# Altium schematic symbol library IPC_WK2_PARTS_Juan_Chavez.SchLib: 30 symbols (part 1 of 2)
Pins are listed as number, name and electrical type; pins without a type are passive.

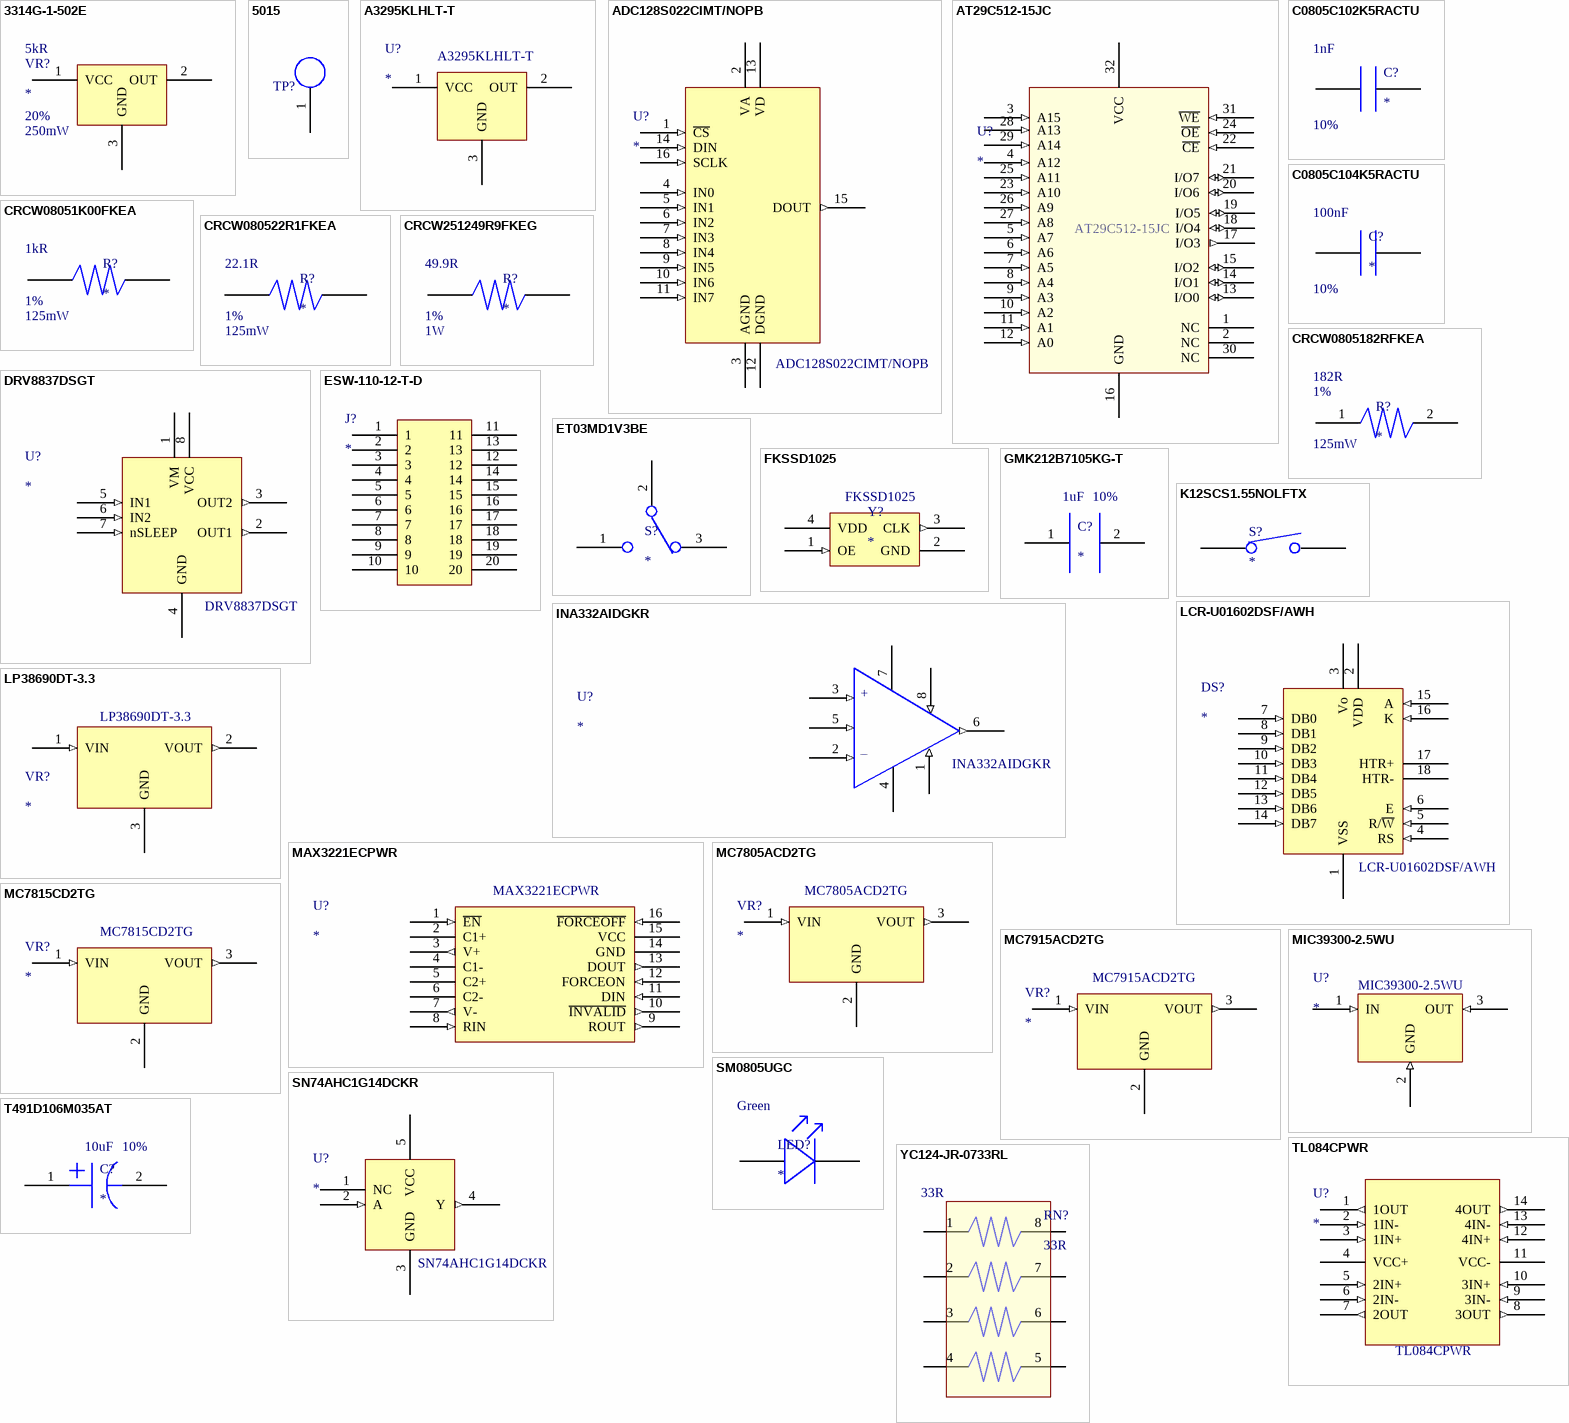
[diagram p0: symbols 3314G-1-502E to YC124-JR-0733RL]

## 3314G-1-502E
designator VR?  value 5kR  Power Rating: 250mW  Tolerance: 20%
Res Cermet Trimmer 5K Ohm 20% 1/4W 1(Elec)/1(Mech)Turn 2.45mm (5 X 6.2 X 2.55mm) Gull Wing SMD Embossed; Mfr.: Bourns; Mfr. P/N: 3314G-1-502E; Number of Turns: 1; Temperature Coefficient: 100ppm/°C; Insulation Resistance: 100MR; Supplier: Arrow Electronics; Supplier Part Number: 3314G-1-502E; RoHS: Yes; Category: Variable Resistors and Potentiometers; Stock: 45; Pricing: 1=1.6763, 10=1.3059, 25=1.2929 (USD); Mounting Technology: Surface Mount; Weight: 0.283g; Color: Natural; Min Operating Temperature: -55°C; Max Operating Temperature: 125°C; Resistor Type: Cermet; Packaging: Tape and Reel; Package Quantity: 500; Taper: Linear; Termination: Gull Wing; Max Power Dissipation: 250mW; Series: Trimpot® 3314 - Sealed; Technology: CERMET; Resistance Tolerance: 20%; Type: Potentiometer; Length: 5mm; Width: 4.5mm; Height: 2.55mm; Depth: 6.2mm; Radiation Hardening: No; Reach SVHC Compliant: No; Military Standard: Not; RoHS Compliant: Yes; Lead Free: Lead Free; ComponentLink1URL: https://datasheet.ciiva.com/11831/0900766b8009eb08-11831268.pdf?src-supplier=Rs; ComponentLink1Description: https://datasheet.ciiva.com/11831/0900766b8009eb08-11831268.pdf?src-supplier=Rs; ComponentLink2URL: https://datasheet.ciiva.com/41691/1846253-41691163.pdf?src-supplier=Newark; ComponentLink2Description: https://datasheet.ciiva.com/41691/1846253-41691163.pdf?src-supplier=Newark; ComponentLink3URL: https://datasheet.ciiva.com/43995/1157675-43995654.pdf?src-supplier=Jameco; ComponentLink3Description: https://datasheet.ciiva.com/43995/1157675-43995654.pdf?src-supplier=Jameco; ComponentLink4URL: https://datasheet.ciiva.com/14089/id3314-dat-e-14089897.pdf?src-supplier=Distrelec; ComponentLink4Description: https://datasheet.ciiva.com/14089/id3314-dat-e-14089897.pdf?src-supplier=Distrelec; ComponentLink5URL: https://datasheet.ciiva.com/15156/getdatasheetpartid-42713-15156279.pdf?src-supplier=Verical; ComponentLink5Description: https://datasheet.ciiva.com/15156/getdatasheetpartid-42713-15156279.pdf?src-supplier=Verical; ComponentLink6URL: https://datasheet.ciiva.com/3266/3314-3266632.pdf?src-supplier=Avnet; ComponentLink6Description: https://datasheet.ciiva.com/3266/3314-3266632.pdf?src-supplier=Avnet; ComponentLink7URL: https://datasheet.ciiva.com/2156/3314-2156331.pdf?src-supplier=Digi-Key; ComponentLink7Description: https://datasheet.ciiva.com/2156/3314-2156331.pdf?src-supplier=Digi-Key; ComponentLink8URL: https://datasheet.ciiva.com/2156/3314-2156332.pdf?src-supplier=Digi-Key; ComponentLink8Description: https://datasheet.ciiva.com/2156/3314-2156332.pdf?src-supplier=Digi-Key; ComponentLink9URL: https://datasheet.ciiva.com/2156/3314-2156330.pdf?src-supplier=Digi-Key; ComponentLink9Description: https://datasheet.ciiva.com/2156/3314-2156330.pdf?src-supplier=Digi-Key; ComponentLink10URL: https://datasheet.ciiva.com/5002/3314-67217-5002489.pdf?src-supplier=Mouser; ComponentLink10Description: https://datasheet.ciiva.com/5002/3314-67217-5002489.pdf?src-supplier=Mouser; ComponentLink11URL: https://datasheet.ciiva.com/16715/70153364-16715774.pdf?src-supplier=Allied+Electronics; ComponentLink11Description: https://datasheet.ciiva.com/16715/70153364-16715774.pdf?src-supplier=Allied+Electronics
footprint SOT120P620X255-3N (SOT23, 3-Leads, Body 4.50x6.20mm, Pitch 1.20mm, IPC Medium Density)
pins: 1 VCC (power), 2 OUT, 3 GND

## 5015
designator TP?, comment {Text}  (value not drawn)
PC TEST POINT MINIATURE SMT; Mfr.: Keystone Electronics; Mfr. P/N: 5015; Plating: Silver; Body Material: Bronze; Supplier: Digi-Key; Supplier Part Number: 36-5015CT-ND; RoHS: Yes; Category: Connectors; Stock: 5080493; Pricing: 1=0.45, 25=0.3684, 100=0.3009, 250=0.2702, 500=0.25792 (USD); Mounting Technology: Surface Mount; Contact Material: Bronze; Contact Plating: Silver; Color: White; Material: Bronze,Silver; Packaging: Tape and Reel; Series: -; Termination: SMD/SMT; Package Quantity: 1; Length: 0.105inch; Height: 0.06inch; Thickness: 0.01inch; Lead Free: Lead Free; RoHS Compliant: Yes; Reach SVHC Compliant: No; ComponentLink1URL: https://datasheet.ciiva.com/1123/5015-1123862.pdf?src-supplier=Newark; ComponentLink1Description: https://datasheet.ciiva.com/1123/5015-1123862.pdf?src-supplier=Newark; ComponentLink2URL: https://datasheet.ciiva.com/2917/5015-2917616.pdf?src-supplier=Digi-Key; ComponentLink2Description: https://datasheet.ciiva.com/2917/5015-2917616.pdf?src-supplier=Digi-Key; ComponentLink3URL: https://datasheet.ciiva.com/2917/5015-2917617.pdf?src-supplier=Digi-Key; ComponentLink3Description: https://datasheet.ciiva.com/2917/5015-2917617.pdf?src-supplier=Digi-Key; ComponentLink4URL: https://datasheet.ciiva.com/16883/70182998-16883734.pdf?src-supplier=Allied+Electronics; ComponentLink4Description: https://datasheet.ciiva.com/16883/70182998-16883734.pdf?src-supplier=Allied+Electronics
footprint TP_PAD
pins: 1

## A3295KLHLT-T
designator U?  Mfr. P/N: A3295KLHLT-T
Hall Effect Sensor 25mA Unipolar 5V/9V/12V/15V/18V 3-Pin SOT-23W T/R; Mfr.: Allegro MicroSystems; Min Supply Voltage: 4.2V; Max Supply Voltage: 24V; Max Supply Current: 8mA; Supplier: Digi-Key; Supplier Part Number: 620-1667-2-ND; RoHS: Yes; Category: Sensors; Pricing: 12000=0.43834 (USD); Mounting Technology: Surface Mount; Pins: 3; Min Operating Temperature: -40°C; Max Operating Temperature: 125°C; Output Current: 25mA; Packaging: Tape and Reel; Package Quantity: 6000; Max Output current: 25mA; Operating Supply Current: 8mA; Type: Unipolar Switch; Series: -; RoHS Compliant: Yes; ComponentLink1URL: http://components.arrow.com/part/dataview/45985065S9795958N6817?src-supplier=Arrow+Electronics; ComponentLink1Description: http://components.arrow.com/part/dataview/45985065S9795958N6817?src-supplier=Arrow+Electronics; ComponentLink2URL: http://www.allegromicro.com/~/media/Files/Datasheets/A3295-Datasheet.ashx?src-supplier=Digi-Key; ComponentLink2Description: http://www.allegromicro.com/~/media/Files/Datasheets/A3295-Datasheet.ashx?src-supplier=Digi-Key
footprint SOT95P285X110-3N (SOT23, 3-Leads, Body 3.00x2.85mm, Pitch 0.95mm, IPC Medium Density)
pins: 1 VCC (power), 2 OUT, 3 GND

## ADC128S022CIMT/NOPB
designator U?  Mfr. P/N: ADC128S022CIMT/NOPB
Octal Channel Single ADC SAR 200ksps 12-bit Serial 16-Pin TSSOP Rail; Mfr.: TI National Semiconductor; Operating Supply Voltage: 3.3V; Interface: SPI,Serial; Min Supply Voltage: 2.7V; Max Supply Voltage: 5.25V; Number of Converters: 1; Resolution: 12b; Number of Bits: 12; Sampling Rate: 200KS/s; Polarity: Unipolar; Integral Nonlinearity (INL): 1LSB; Signal to Noise Ratio (SNR): 73dB; Number of Analog Inputs: 8; Full Scale Error: 2LSB; Differential Nonlinearity: -0.7LSB; Supply Type: Analog,Digital; Power Consumption: 1.2mW; Voltage: 5V; Converter Type: GENERAL PURPOSE; Supplier: Mouser; Supplier Part Number: 926-C128S022CIMTNOPB; RoHS: Yes; Category: Analog to Digital Converters (ADCs); Stock: 4294; Pricing: 1=6.86, 10=6.16, 25=5.82, 50=5.82, 92=5.05, 100=5.05, 276=4.78, 552=4.29, 1000=4.29, 1012=3.66, 2576=3.54, 5060=3.41, 10000=3.66 (USD); Mounting Technology: Surface Mount; Case/Package: TSSOP; Pins: 16; Contact Plating: Tin; Min Operating Temperature: -40°C; Max Operating Temperature: 105°C; Packaging: Rail/Tube; Number of Elements: 1; Number of A/D Converters: 1; Length: 5mm; Width: 4.4mm; Height: 0.9mm; Radiation Hardening: No; RoHS Compliant: Yes; Reach SVHC Compliant: No; Lead Free: Lead Free; ComponentLink1URL: https://datasheet.ciiva.com/27051/1256032-27051779.pdf?src-supplier=Jameco; ComponentLink1Description: https://datasheet.ciiva.com/27051/1256032-27051779.pdf?src-supplier=Jameco; ComponentLink2URL: https://datasheet.ciiva.com/26888/getdatasheetpartid-646454-26888523.pdf?src-supplier=Verical; ComponentLink2Description: https://datasheet.ciiva.com/26888/getdatasheetpartid-646454-26888523.pdf?src-supplier=Verical; ComponentLink3URL: https://datasheet.ciiva.com/3039/adc128s022-3039436.pdf?src-supplier=Avnet; ComponentLink3Description: https://datasheet.ciiva.com/3039/adc128s022-3039436.pdf?src-supplier=Avnet; ComponentLink4URL: https://datasheet.ciiva.com/6659/adc128s022-6659263.pdf?src-supplier=Digi-Key; ComponentLink4Description: https://datasheet.ciiva.com/6659/adc128s022-6659263.pdf?src-supplier=Digi-Key
footprint TSOP65P640X110-16N (TSOP, 16-Leads, Body 5.00x4.45mm, Pitch 0.65mm, IPC Medium Density)
pins: 1 ~{CS} (in) "Chip select. On the falling edge of CS, a conversion process begins. Conversions continue as long as CS is held low.", 2 VA (power) "Positive analog supply pin. This voltage is also used as the reference voltage. This pin VA 2 Supply should be connected to a quiet +2.7-V to +5.25-V source and bypassed to GND with 1-μF and 0.1-μF monolithic ceramic capacitors located within 1 cm of the power pin.", 3 AGND (power) "The ground return for the analog supply and signals.", 4 IN0 (in) "Analog inputs. These signals can range from 0 V to VREF", 5 IN1 (in) "Analog inputs. These signals can range from 0 V to VREF", 6 IN2 (in) "Analog inputs. These signals can range from 0 V to VREF", 7 IN3 (in) "Analog inputs. These signals can range from 0 V to VREF", 8 IN4 (in) "Analog inputs. These signals can range from 0 V to VREF", 9 IN5 (in) "Analog inputs. These signals can range from 0 V to VREF", 10 IN6 (in) "Analog inputs. These signals can range from 0 V to VREF", 11 IN7 (in) "Analog inputs. These signals can range from 0 V to VREF", 12 DGND (power) "The ground return for the digital supply and signals.", 13 VD (power) "Positive digital supply pin. This pin should be connected to a +2.7-V to VA supply, and VD 13 Supply bypassed to GND with a 0.1-μF monolithic ceramic capacitor located within 1 cm of the power pin.", 14 DIN (in) "Digital data input. The ADC128S022's Control Register is loaded through this pin on rising edges of the SCLK pin.", 15 DOUT (out) "Digital data output. The output samples are clocked out of this pin on the falling edges of the SCLK pin.", 16 SCLK (in) "Digital clock input. The specified performance range of frequencies for this input is 0.8 MHz to 3.2 MHz. This clock directly controls the conversion and readout processes."

## AT29C512-15JC
designator U?  Mfr. P/N: AT29C512-15JC
FLASH Memory IC 512Kbit Parallel 150 ns 32-PLCC (13.97x11.43); Mfr: Microchip Technology; Memory Type: Non-Volatile; Memory Organization: 68K x 8; Write Cycle Time - Word, Page: 10ms; Access Time: 150 ns; Voltage - Supply: 4.5V ~ 5.5V; Base Product Number: AT29C512; Memory Format: FLASH; Technology: FLASH; Memory Size: 512Kbit; Memory Interface: Parallel; Operating Temperature: 0°C ~ 70°C (TC); Mounting Type: Surface Mount; Package / Case: 32-LCC (J-Lead); Supplier Device Package: 32-PLCC (13.97x11.43)
footprint PLCC127P1245X1499X356-32N (Leaded Chip Carrier, 32-Leads, Body 12.45x14.99mm, Pitch 1.270mm, IPC Medium Density)
pins: 1 NC (hiz) "No Connect", 2 NC (hiz) "No Connect", 3 A15 (in) "Addresses", 4 A12 (in) "Addresses", 5 A7 (in) "Addresses", 6 A6 (in) "Addresses", 7 A5 (in) "Addresses", 8 A4 (in) "Addresses", 9 A3 (in) "Addresses", 10 A2 (in) "Addresses", 11 A1 (in) "Addresses", 12 A0 (in) "Addresses", 13 I/O0 (io) "Data Inputs/Outputs", 14 I/O1 (io) "Data Inputs/Outputs", 15 I/O2 (io) "Data Inputs/Outputs", 16 GND (power) "Ground", 17 I/O3 (out) "Data Inputs/Outputs", 18 I/O4 (io) "Data Inputs/Outputs", 19 I/O5 (io) "Data Inputs/Outputs", 20 I/O6 (io) "Data Inputs/Outputs", 21 I/O7 (io) "Data Inputs/Outputs", 22 ~{CE} (in) "Chip Enable", 23 A10 (in) "Addresses", 24 ~{OE} (in) "Output Enable", 25 A11 (in) "Addresses", 26 A9 (in) "Addresses", 27 A8 (in) "Addresses", 28 A13 (in) "Addresses", 29 A14 (in) "Addresses", 30 NC (hiz) "No Connect", 31 ~{WE} (in) "Write Enable", 32 VCC (power) "Power Supply"

## C0805C102K5RACTU
designator C?  value 1nF  Tolerance: 10%
Cap Ceramic 0.001uF 50V X7R 10% SMD 0805 125C Plastic T/R; Mfr.: KEMET; Mfr. P/N: C0805C102K5RACTU; Supplier: Mouser; Supplier Part Number: 80-C0805C102K5R; RoHS: Yes; Category: Ceramic Capacitors; Stock: 426054; Pricing: 1=0.11, 10=0.046, 50=0.046, 100=0.027, 1000=0.022, 10000=0.016 (USD); Mounting Technology: Surface Mount,PCB; Case/Package: 0805; Pins: 2; Case Code (Imperial): 0805; Case Code (Metric): 2012; Dielectric Material: Ceramic; Min Operating Temperature: -55°C; Max Operating Temperature: 125°C; Packaging: Tape and Reel; Dielectric: X7R; Voltage Rating (DC): 50V; Voltage: 50V; Series: SMD Comm X7R; Voltage Rating: 50V; Package Quantity: 4000; Termination: SMD/SMT; Construction: Flat; Length: 2mm; Width: 1.25mm; Height: 0.78mm; Lead Pitch: 0.75mm; Depth: 1.25mm; Radiation Hardening: No; RoHS Compliant: Yes; Reach SVHC Compliant: No; ComponentLink1URL: https://datasheet.ciiva.com/7842/1918693-7842527.pdf?src-supplier=Element14; ComponentLink1Description: https://datasheet.ciiva.com/7842/1918693-7842527.pdf?src-supplier=Element14; ComponentLink2URL: https://datasheet.ciiva.com/18193/getdatasheetpartid-385640-18193338.pdf?src-supplier=Verical; ComponentLink2Description: https://datasheet.ciiva.com/18193/getdatasheetpartid-385640-18193338.pdf?src-supplier=Verical; ComponentLink3URL: https://datasheet.ciiva.com/39122/docfinderpartnumberc0402c102k5ractu-39122922.pdf?src-supplier=Onlinecomponents.com; ComponentLink3Description: https://datasheet.ciiva.com/39122/docfinderpartnumberc0402c102k5ractu-39122922.pdf?src-supplier=Onlinecomponents.com
footprint CAPC2012X07N (Chip Capacitor, 2-Leads, Body 2.00x1.25mm, IPC Medium Density)
pins: 1, 2

## C0805C104K5RACTU
designator C?  value 100nF  Tolerance: 10%
Cap Ceramic 0.1uF 50V X7R 10% SMD 2.0 x 1.2 mm 125 C Paper T/R; Mfr.: KEMET; Mfr. P/N: C0805C104K5RACTU; Voltage: 500V; Supplier: Mouser; Supplier Part Number: 80-C0805C104K5R; RoHS: Yes; Category: Ceramic Capacitors; Stock: 2449664; Pricing: 1=0.1, 10=0.066, 50=0.066, 100=0.04, 1000=0.035, 4000=0.03, 8000=0.022, 10000=0.022, 24000=0.019, 100000=0.017 (USD); Mounting Technology: Surface Mount,PCB; Case/Package: 0805; Pins: 2; Case Code (Imperial): 0805; Case Code (Metric): 2012; Min Operating Temperature: -55°C; Max Operating Temperature: 125°C; Dielectric: X7R; Package Quantity: 4000; Voltage Rating: 50V; Packaging: Tape and Reel; Voltage Rating (DC): 50V; Termination: SMD/SMT; Series: SMD Comm X7R; Construction: Flat; Length: 2mm; Width: 1.2mm; Height: 0.9mm; Depth: 1.25mm; Lead Pitch: 0.75mm; Radiation Hardening: No; RoHS Compliant: Yes; Reach SVHC Compliant: No; ComponentLink1URL: https://datasheet.ciiva.com/32431/slceramic-chip-condensers-e-32431755.pdf?src-supplier=Distrelec; ComponentLink1Description: https://datasheet.ciiva.com/32431/slceramic-chip-condensers-e-32431755.pdf?src-supplier=Distrelec; ComponentLink2URL: https://datasheet.ciiva.com/28682/1851736-28682232.pdf?src-supplier=Element14; ComponentLink2Description: https://datasheet.ciiva.com/28682/1851736-28682232.pdf?src-supplier=Element14; ComponentLink3URL: https://datasheet.ciiva.com/18410/70095383-18410815.pdf?src-supplier=Allied+Electronics; ComponentLink3Description: https://datasheet.ciiva.com/18410/70095383-18410815.pdf?src-supplier=Allied+Electronics; ComponentLink4URL: https://datasheet.ciiva.com/14589/70095383-14589048.pdf?src-supplier=Allied+Electronics; ComponentLink4Description: https://datasheet.ciiva.com/14589/70095383-14589048.pdf?src-supplier=Allied+Electronics
footprint CAPC2012X07N (Chip Capacitor, 2-Leads, Body 2.00x1.25mm, IPC Medium Density)
pins: 1, 2

## CRCW08051K00FKEA
designator R?  value 1kR  Max Power Dissipation: 125mW  Tolerance: 1%
Res Thick Film 0805 1K Ohm 1% 1/8W ±100ppm/°C Molded SMD Paper T/R; Mfr.: Vishay Dale; Mfr. P/N: CRCW08051K00FKEA; Voltage Rating: 150V; Supplier: Mouser; Supplier Part Number: 71-CRCW0805-1.0K-E3; RoHS: Yes; Category: Chip SMD Resistors; Stock: 652369; Pricing: 1=0.1, 10=0.026, 50=0.026, 100=0.026, 1000=0.013, 10000=0.007 (USD); Case/Package: 0805; Pins: 2; Contact Plating: Tin; Weight: 0.000194oz; Case Code (Imperial): 0805; Case Code (Metric): 2012; Min Operating Temperature: -55°C; Max Operating Temperature: 155°C; Temperature Coefficient: 100ppm/°C; Series: CRCW; Packaging: Tape and Reel; Package Quantity: 5000; Number of Terminations: 2; Power Rating: 125mW; Resistor Type: Thick Film; Termination: SMD/SMT; Voltage Rating (DC): 150V; Features: Automotive AEC-Q200; Technology: THICK FILM; Resistance Tolerance: 1%; Construction: Rectangular; Length: 2mm; Width: 1.25mm; Height: 0.45mm; Depth: 1.25mm; Ratings: AEC-Q200; RoHS Compliant: Yes; Lead Free: Lead Free; Reach SVHC Compliant: Unknown; Military Standard: Not; ComponentLink1URL: https://datasheet.ciiva.com/11808/0900766b80d98b26-11808530.pdf?src-supplier=Rs; ComponentLink1Description: https://datasheet.ciiva.com/11808/0900766b80d98b26-11808530.pdf?src-supplier=Rs; ComponentLink2URL: https://datasheet.ciiva.com/3258/dcrcwe3-3258215.pdf?src-supplier=Avnet; ComponentLink2Description: https://datasheet.ciiva.com/3258/dcrcwe3-3258215.pdf?src-supplier=Avnet; ComponentLink3URL: https://datasheet.ciiva.com/26312/fld-crcw-e3-data-en-26312922.pdf?src-supplier=Distrelec; ComponentLink3Description: https://datasheet.ciiva.com/26312/fld-crcw-e3-data-en-26312922.pdf?src-supplier=Distrelec; ComponentLink4URL: https://datasheet.ciiva.com/16213/dcrcwe3-16213643.pdf?src-supplier=Future+Electronics; ComponentLink4Description: https://datasheet.ciiva.com/16213/dcrcwe3-16213643.pdf?src-supplier=Future+Electronics; ComponentLink5URL: https://datasheet.ciiva.com/46381/1697337-46381606.pdf?src-supplier=Element14; ComponentLink5Description: https://datasheet.ciiva.com/46381/1697337-46381606.pdf?src-supplier=Element14; ComponentLink6URL: https://datasheet.ciiva.com/46441/1720486-46441626.pdf?src-supplier=Element14; ComponentLink6Description: https://datasheet.ciiva.com/46441/1720486-46441626.pdf?src-supplier=Element14
footprint RESC2012X05N (Chip Resistor, 2-Leads, Body 2.05x1.25mm, IPC Medium Density)
pins: 1, 2

## CRCW080522R1FKEA
designator R?  value 22.1R  Power Rating: 125mW  Tolerance: 1%
Resistor Thick Film 0805 22.1 Ohm 1% 1/8W 100ppm/C Molded SMD Paper T/R; Mfr.: Vishay; Mfr. P/N: CRCW080522R1FKEA; Temperature Coefficient: 100ppm/°C; Voltage Rating: 150V; Supplier: Mouser; Supplier Part Number: 71-CRCW0805-22.1-E3; RoHS: Yes; Category: Chip SMD Resistors; Stock: 3937; Pricing: 1=0.1, 10=0.063, 50=0.063, 100=0.028, 1000=0.013, 10000=0.008 (USD); Case/Package: 0805; Pins: 2; Weight: 0.000194oz; Case Code (Imperial): 0805; Case Code (Metric): 2012; Contact Plating: Tin; Min Operating Temperature: -55°C; Max Operating Temperature: 155°C; Packaging: Tape and Reel; Package Quantity: 5000; Termination: SMD/SMT; Features: Automotive AEC-Q200; Series: CRCW; Max Power Dissipation: 125mW; Number of Terminations: 2; Construction: Rectangular; Resistor Type: Thick Film; Voltage Rating (DC): 150V; Technology: THICK FILM; Resistance Tolerance: 1%; Length: 2mm; Width: 1.25mm; Height: 0.45mm; Depth: 1.25mm; Radiation Hardening: No; RoHS Compliant: Yes; Military Standard: Not; Lead Free: Lead Free; Reach SVHC Compliant: Unknown; ComponentLink1URL: https://datasheet.ciiva.com/11809/0900766b80d98b26-11809170.pdf?src-supplier=Rs; ComponentLink1Description: https://datasheet.ciiva.com/11809/0900766b80d98b26-11809170.pdf?src-supplier=Rs; ComponentLink2URL: https://datasheet.ciiva.com/3258/dcrcwe3-3258341.pdf?src-supplier=Avnet; ComponentLink2Description: https://datasheet.ciiva.com/3258/dcrcwe3-3258341.pdf?src-supplier=Avnet; ComponentLink3URL: https://datasheet.ciiva.com/3258/dcrcwe3-3258342.pdf?src-supplier=Avnet; ComponentLink3Description: https://datasheet.ciiva.com/3258/dcrcwe3-3258342.pdf?src-supplier=Avnet; ComponentLink4URL: https://datasheet.ciiva.com/7725/125364-7725867.pdf?src-supplier=Element14; ComponentLink4Description: https://datasheet.ciiva.com/7725/125364-7725867.pdf?src-supplier=Element14; ComponentLink5URL: https://datasheet.ciiva.com/7168/1635184-7168232.pdf?src-supplier=Newark; ComponentLink5Description: https://datasheet.ciiva.com/7168/1635184-7168232.pdf?src-supplier=Newark; ComponentLink6URL: https://datasheet.ciiva.com/16760/70201119-16760713.pdf?src-supplier=Allied+Electronics; ComponentLink6Description: https://datasheet.ciiva.com/16760/70201119-16760713.pdf?src-supplier=Allied+Electronics; ComponentLink7URL: https://datasheet.ciiva.com/7934/1697337-7934405.pdf?src-supplier=Element14; ComponentLink7Description: https://datasheet.ciiva.com/7934/1697337-7934405.pdf?src-supplier=Element14; ComponentLink8URL: https://datasheet.ciiva.com/7934/1697337-7934406.pdf?src-supplier=Element14; ComponentLink8Description: https://datasheet.ciiva.com/7934/1697337-7934406.pdf?src-supplier=Element14
footprint RESC2012X05N (Chip Resistor, 2-Leads, Body 2.05x1.25mm, IPC Medium Density)
pins: 1, 2

## CRCW251249R9FKEG
designator R?  value 49.9R  Power Rating: 1W  Tolerance: 1%
Res Thick Film 2512 49.9 Ohm 1% 1W ±100ppm/°C Molded SMD SMD Blister T/R; Mfr.: Vishay; Mfr. P/N: CRCW251249R9FKEG; Voltage Rating: 500V; Supplier: Mouser; Supplier Part Number: 71-CRCW2512-49.9-E3; RoHS: Yes; Category: Chip SMD Resistors; Stock: 24617; Pricing: 1=0.44, 10=0.358, 50=0.358, 100=0.168, 500=0.15, 1000=0.074, 2000=0.066, 4000=0.059, 10000=0.059 (USD); Case/Package: 2512; Weight: 0.001429oz; Case Code (Imperial): 2512; Case Code (Metric): 6432; Contact Plating: Tin; Min Operating Temperature: -55°C; Max Operating Temperature: 155°C; Package Quantity: 10; Packaging: Tape and Reel; Number of Terminations: 2; Temperature Coefficient: 100ppm/°C; Max Power Dissipation: 1W; Features: Automotive AEC-Q200; Series: CRCW; Termination: SMD/SMT; Resistor Type: Thick Film; Voltage Rating (DC): 500V; Construction: Rectangular; Technology: THICK FILM; Resistance Tolerance: 1%; Length: 6.3mm; Width: 0.124inch; Height: 0.6mm; Depth: 3.15mm; Radiation Hardening: No; Lead Free: Lead Free; RoHS Compliant: Yes; Military Standard: Not; Reach SVHC Compliant: Unknown; ComponentLink1URL: https://datasheet.ciiva.com/11818/0900766b80d98bd1-11818245.pdf?src-supplier=Rs; ComponentLink1Description: https://datasheet.ciiva.com/11818/0900766b80d98bd1-11818245.pdf?src-supplier=Rs; ComponentLink2URL: https://datasheet.ciiva.com/9003/dcrcwe3-9003358.pdf?src-supplier=Avnet; ComponentLink2Description: https://datasheet.ciiva.com/9003/dcrcwe3-9003358.pdf?src-supplier=Avnet; ComponentLink3URL: https://datasheet.ciiva.com/2478/dcrcwe3-2478305.pdf?src-supplier=Digi-Key; ComponentLink3Description: https://datasheet.ciiva.com/2478/dcrcwe3-2478305.pdf?src-supplier=Digi-Key; ComponentLink4URL: https://datasheet.ciiva.com/2478/dcrcwe3-2478306.pdf?src-supplier=Digi-Key; ComponentLink4Description: https://datasheet.ciiva.com/2478/dcrcwe3-2478306.pdf?src-supplier=Digi-Key; ComponentLink5URL: https://datasheet.ciiva.com/2478/dcrcwe3-2478307.pdf?src-supplier=Digi-Key; ComponentLink5Description: https://datasheet.ciiva.com/2478/dcrcwe3-2478307.pdf?src-supplier=Digi-Key; ComponentLink6URL: https://datasheet.ciiva.com/7841/1533075-7841884.pdf?src-supplier=Element14; ComponentLink6Description: https://datasheet.ciiva.com/7841/1533075-7841884.pdf?src-supplier=Element14
footprint RESC6332X07N (Chip Resistor, 2-Leads, Body 6.30x3.15mm, IPC Medium Density)
pins: 1, 2

## CRCW0805182RFKEA
designator R?  value 182R  Power Rating: 125mW  Tolerance: 1%
Res Thick Film 0805 182 Ohm 1% 1/8W ±100ppm/°C Molded SMD SMD Paper T/R; Mfr.: Vishay; Mfr. P/N: CRCW0805182RFKEA; Voltage Rating: 150V; Supplier: Mouser; RoHS: Yes; Category: Chip SMD Resistors; Stock: 25171; Pricing: 1=0.13, 10=0.068, 50=0.068, 100=0.028, 1000=0.013, 10000=0.008 (USD); Case/Package: 0805; Pins: 2; Contact Plating: Tin; Weight: 0.000194oz; Case Code (Metric): 2012; Case Code (Imperial): 0805; Min Operating Temperature: -55°C; Max Operating Temperature: 155°C; Temperature Coefficient: 100ppm/°C; Package Quantity: 10; Packaging: Tape and Reel; Resistor Type: Thick Film; Number of Terminations: 2; Termination: SMD/SMT; Max Power Dissipation: 125mW; Features: Automotive AEC-Q200; Series: CRCW; Voltage Rating (DC): 150V; Resistance Tolerance: 1%; Technology: THICK FILM; Length: 2mm; Width: 0.049inch; Height: 0.45mm; Depth: 1.25mm; Radiation Hardening: No; Lead Free: Lead Free; RoHS Compliant: Yes; Reach SVHC Compliant: Unknown; ComponentLink1URL: https://datasheet.ciiva.com/11810/0900766b80d98b26-11810431.pdf?src-supplier=Rs; ComponentLink1Description: https://datasheet.ciiva.com/11810/0900766b80d98b26-11810431.pdf?src-supplier=Rs; ComponentLink2URL: https://datasheet.ciiva.com/16430/dcrcwe3-16430250.pdf?src-supplier=Future+Electronics; ComponentLink2Description: https://datasheet.ciiva.com/16430/dcrcwe3-16430250.pdf?src-supplier=Future+Electronics; ComponentLink3URL: https://datasheet.ciiva.com/5550/dcrcwe3-109170-5550684.pdf?src-supplier=Mouser; ComponentLink3Description: https://datasheet.ciiva.com/5550/dcrcwe3-109170-5550684.pdf?src-supplier=Mouser; Supplier Part Number: 71-CRCW0805-182-E3
footprint RESC2012X05N (Chip Resistor, 2-Leads, Body 2.05x1.25mm, IPC Medium Density)
pins: 1, 2

## DRV8837DSGT
designator U?  Mfr. P/N: DRV8837DSGT
12-V, 1.8-A H-bridge motor driver 8-WSON -40 to 85; Mfr.: Texas Instruments; Number of Outputs: 1; Output Current: 1.8A; Min Supply Voltage: 1.8V; Max Supply Voltage: 11V; Supply Current: 300uA; Interface: PWM; Supplier: Digi-Key; Supplier Part Number: 296-34786-6-ND; RoHS: Yes; Category: Motor Drivers; Pricing: 1=1.37, 10=1.221, 25=1.1588, 100=0.952 (USD); Mounting Technology: Surface Mount; Pins: 8; Min Operating Temperature: -40°C; Max Operating Temperature: 85°C; Packaging: Tape and Reel; Package Quantity: 250; Series: -; Technology: NMOS; Length: 2.1mm; Width: 2.1mm; Height: 0.75mm; Radiation Hardening: No; Reach SVHC Compliant: No; Lead Free: Lead Free; RoHS Compliant: Yes; ComponentLink1URL: https://datasheet.ciiva.com/14266/drv8837-14266561.pdf?src-supplier=Avnet; ComponentLink1Description: https://datasheet.ciiva.com/14266/drv8837-14266561.pdf?src-supplier=Avnet; ComponentLink2URL: https://datasheet.ciiva.com/6807/cn0248-6807181.pdf?src-supplier=Newark; ComponentLink2Description: https://datasheet.ciiva.com/6807/cn0248-6807181.pdf?src-supplier=Newark; ComponentLink3URL: https://datasheet.ciiva.com/23656/1636647-23656282.pdf?src-supplier=Newark; ComponentLink3Description: https://datasheet.ciiva.com/23656/1636647-23656282.pdf?src-supplier=Newark; ComponentLink4URL: https://datasheet.ciiva.com/12085/slvsba4-121318-12085396.pdf?src-supplier=Mouser; ComponentLink4Description: https://datasheet.ciiva.com/12085/slvsba4-121318-12085396.pdf?src-supplier=Mouser; ComponentLink5URL: https://datasheet.ciiva.com/15109/getdatasheetpartid-561293-15109657.pdf?src-supplier=Verical; ComponentLink5Description: https://datasheet.ciiva.com/15109/getdatasheetpartid-561293-15109657.pdf?src-supplier=Verical; ComponentLink6URL: https://datasheet.ciiva.com/6607/drv8837-6607960.pdf?src-supplier=Digi-Key; ComponentLink6Description: https://datasheet.ciiva.com/6607/drv8837-6607960.pdf?src-supplier=Digi-Key; ComponentLink7URL: https://datasheet.ciiva.com/6607/drv8837-6607959.pdf?src-supplier=Digi-Key; ComponentLink7Description: https://datasheet.ciiva.com/6607/drv8837-6607959.pdf?src-supplier=Digi-Key
footprint SON50P200X80_HS-9N (SON, 8-Leads, Body 2.00x2.00mm, Pitch 0.50mm, Thermal Pad 1.65x0.69mm, IPC Medium Density)
pins: 1 VM (power), 2 OUT1 (out), 3 OUT2 (out), 4 GND (power), 5 IN1 (in), 6 IN2 (in), 7 nSLEEP (in), 8 VCC (power)

## ESW-110-12-T-D
designator J?
Conn Elevated Socket SKT 20 POS 2.54mm Solder ST Thru-Hole Tube; Mfr.: Samtec; Mfr. P/N: ESW-110-12-T-D; Number of Positions: 20; Gender: Receptacle; Voltage Rating (AC): 550V; Supplier Part Number: SAM11130-ND; RoHS: Yes; Category: Connectors; Stock: 138; Pricing: 1=3.28, 10=2.981, 100=2.626, 500=2.2321, 1000=1.90385, 5000=1.7069 (USD); Contact Material: Bronze; Contact Plating: Tin; Contact Finish - Mating: TIN; Insulation Color: Black; Insulation Material: Polymer; Contact Shape: Square; Min Operating Temperature: -55°C; Max Operating Temperature: 105°C; Number of Rows: 2; Termination: Solder; Series: ESW; Contact Type: Forked; Number of Contacts: 20; Packaging: Rail/Tube; Fastening Type: Pull; Pitch: 2.54mm; RoHS Compliant: Yes; Flammability Rating: UL94 V-0; ComponentLink1URL: http://www.farnell.com/datasheets/2607183.pdf?src-supplier=Farnell; ComponentLink1Description: http://www.farnell.com/datasheets/2607183.pdf?src-supplier=Farnell; ComponentLink2URL: http://suddendocs.samtec.com/catalog_english/esw_th.pdf?src-supplier=Digi-Key; ComponentLink2Description: http://suddendocs.samtec.com/catalog_english/esw_th.pdf?src-supplier=Digi-Key; ComponentLink3URL: http://cloud.samtec.com/catalog_english/ESW_TH.PDF?src-supplier=Avnet; ComponentLink3Description: http://cloud.samtec.com/catalog_english/ESW_TH.PDF?src-supplier=Avnet; ComponentLink4URL: http://www.farnell.com/datasheets/2607183.pdf?src-supplier=Newark; ComponentLink4Description: http://www.farnell.com/datasheets/2607183.pdf?src-supplier=Newark; Supplier: Digi-Key
footprint ESW-110-12-T-D
pins: 1, 2, 3, 4, 5, 6, 7, 8, 9, 10, 11, 12, 13, 14, 15, 16, 17, 18, 19, 20

## ET03MD1V3BE
designator S?
Switch Toggle ON OFF ON SPDT Toggle V-Bracket 20VAC 20VDC 0.4W Bracket Mount/Through Hole; Mfr.: ITT C&K; Mfr. P/N: ET03MD1V3BE; Actuator Material: Brass,Chrome; Actuator Color: Chrome; Voltage Rating (AC): 20V; Illumination Type: Non-Illuminated; Electrical Life: 30000Cycles; Current Rating: 400mA; Switch Function: On-Off-On; Actuator Type: Standard Round; Actuator Length: 6.1mm; Ratings: IP57,Waterproof; Supplier: Mouser; Supplier Part Number: 611-ET03MD1V3BE; RoHS: Yes; Category: Toggle Switches; Stock: 70; Pricing: 1=12.42, 10=11.89, 50=8.49, 100=7.1, 1000=7.07, 10000=7.07 (USD); Mounting Technology: Through Hole,Brackets; Contact Material: Copper Alloy; Contact Plating: Gold,Nickel; Min Operating Temperature: -30°C; Max Operating Temperature: 85°C; Voltage Rating (DC): 20V; Throw Configuration: SPDT; Package Quantity: 1; Packaging: Bulk; Max Voltage Rating (AC): 20V; Max Voltage Rating (DC): 20V; Termination: PC Pins; Orientation: Straight; Series: ET; Radiation Hardening: No; RoHS Compliant: Yes; ComponentLink1URL: https://datasheet.ciiva.com/8607/et-toggle-25aug14-8607333.pdf?src-supplier=Avnet; ComponentLink1Description: https://datasheet.ciiva.com/8607/et-toggle-25aug14-8607333.pdf?src-supplier=Avnet; ComponentLink2URL: https://datasheet.ciiva.com/2907/et-toggle-25aug14-2907044.pdf?src-supplier=Digi-Key; ComponentLink2Description: https://datasheet.ciiva.com/2907/et-toggle-25aug14-2907044.pdf?src-supplier=Digi-Key
footprint ET03MD1V3BE
pins: 1, 2, 3

## FKSSD1025
designator Y?  Mfr. P/N: FKSSD1025
SMD Crystal Oscillator 25MHz 3.3V 15pF 4-Pin CSMD; Mfr.: Diodes; Frequency Stability: 25ppm; Max Supply Current: 10mA; Max Supply Voltage: 3.63V; Min Supply Voltage: 2.97V; Supplier: Digi-Key; Supplier Part Number: FKSSD1025CT-ND; RoHS: Yes; Category: Oscillators; Stock: 3222; Pricing: 1=1.18, 10=1.129, 50=1.103, 100=0.9454, 500=0.9191, 1000=0.77467 (USD); Mounting Technology: Surface Mount; Case/Package: SMD/SMT; Pins: 4; Min Operating Temperature: -20°C; Max Operating Temperature: 70°C; Frequency: 25MHz; Load Capacitance: 15pF; Packaging: Tape and Reel; Operating Supply Voltage: 3.3V; Termination: SMD/SMT; Series: SaRonix-eCera™ ASSP XO™; Operating Frequency: 25 MHz; Length: 3.2mm; Depth: 2.5mm; Radiation Hardening: No; RoHS Compliant: Yes; ComponentLink1URL: https://datasheet.ciiva.com/867/fkssd1025-867824.pdf?src-supplier=Digi-Key; ComponentLink1Description: https://datasheet.ciiva.com/867/fkssd1025-867824.pdf?src-supplier=Digi-Key; ComponentLink2URL: https://datasheet.ciiva.com/9295/fkssd1025-9295303.pdf?src-supplier=Avnet; ComponentLink2Description: https://datasheet.ciiva.com/9295/fkssd1025-9295303.pdf?src-supplier=Avnet; ComponentLink3URL: https://datasheet.ciiva.com/16438/fdsas2062-16438357.pdf?src-supplier=Future+Electronics; ComponentLink3Description: https://datasheet.ciiva.com/16438/fdsas2062-16438357.pdf?src-supplier=Future+Electronics
footprint SOT255P210X110-3N-4OSC (SOT23, 3-Leads, Body 2.00x2.10mm, Pitch 2.55mm, IPC Medium Density)
pins: 1 OE (in), 2 GND (power), 3 CLK (out), 4 VDD (power)

## GMK212B7105KG-T
designator C?  value 1uF  Tolerance: 10%
0805 1 uF 35 V ±10% Tolerance X7R SMT Multilayer Ceramic Capacitor; Mfr.: Taiyo Yuden; Mfr. P/N: GMK212B7105KG-T; Voltage Rating: 35V; Supplier: Digi-Key; Supplier Part Number: 587-1438-1-ND; RoHS: Yes; Category: Ceramic Capacitors; Stock: 378869; Pricing: 1=0.19, 10=0.133, 50=0.0796, 100=0.0672, 500=0.04596, 1000=0.04065 (USD); Mounting Technology: Surface Mount; Case/Package: 0805; Pins: 2; Case Code (Metric): 2012; Case Code (Imperial): 0805; Min Operating Temperature: -55°C; Max Operating Temperature: 125°C; Dielectric: X7R; Packaging: Tape and Reel; Package Quantity: 1; Termination: SMD/SMT; Voltage: 35V; Voltage Rating (DC): 35V; Series: M; Construction: Flat; Length: 2mm; Width: 0.049inch; Height: 1.25mm; Thickness: 0.053inch; Depth: 1.25mm; Radiation Hardening: No; Lead Free: Lead Free; RoHS Compliant: Yes; Reach SVHC Compliant: Unknown; Halogen Free: Halogen Free; ComponentLink1URL: https://datasheet.ciiva.com/30215/47gmk212b7105kg-t-30215621.pdf?src-supplier=Onlinecomponents.com; ComponentLink1Description: https://datasheet.ciiva.com/30215/47gmk212b7105kg-t-30215621.pdf?src-supplier=Onlinecomponents.com; ComponentLink2URL: https://datasheet.ciiva.com/26871/getdatasheetpartid-638781-26871556.pdf?src-supplier=Verical; ComponentLink2Description: https://datasheet.ciiva.com/26871/getdatasheetpartid-638781-26871556.pdf?src-supplier=Verical; ComponentLink3URL: https://datasheet.ciiva.com/30215/95gmk212b7105kg-t-30215783.pdf?src-supplier=Onlinecomponents.com; ComponentLink3Description: https://datasheet.ciiva.com/30215/95gmk212b7105kg-t-30215783.pdf?src-supplier=Onlinecomponents.com; ComponentLink4URL: https://datasheet.ciiva.com/7975/746258-7975669.pdf?src-supplier=Element14; ComponentLink4Description: https://datasheet.ciiva.com/7975/746258-7975669.pdf?src-supplier=Element14; ComponentLink5URL: https://datasheet.ciiva.com/28645/746258-28645055.pdf?src-supplier=Element14; ComponentLink5Description: https://datasheet.ciiva.com/28645/746258-28645055.pdf?src-supplier=Element14
footprint CAPC2012X14N (Chip Capacitor, 2-Leads, Body 2.00x1.25mm, IPC Medium Density)
pins: 1, 2

## INA332AIDGKR
designator U?  Mfr. P/N: INA332AIDGKR
Low-power, single-supply, CMOS, low-cost, instrumentation amplifier 8-VSSOP -55 to 125; Mfr.: Texas Instruments; Slew Rate: 5V/µs; -3db Bandwidth: 2MHz; Common Mode Rejection Ratio: 60dB; Number of Channels: 1; Max Supply Voltage: 5.5V; Min Supply Voltage: 2.5V; Input Bias Current: 10pA; Input Offset Voltage (Vos): 8mV; Operating Supply Current: 415uA; Output Current per Channel: 48mA; Power Supply Rejection Ratio (PSRR): 86.02dB; Supply Current: 490uA; Number of Elements: 3; Input Resistance: 10000GR; Supplier: Digi-Key; Supplier Part Number: 296-41265-1-ND; RoHS: Yes; Category: Amplifiers - Op Amps, Buffer, Instrumentation; Pricing: 1=1.65, 10=1.485, 25=1.4008, 100=1.1935, 250=1.12064, 500=0.98056, 1000=0.81246 (USD); Case/Package: VSSOP; Pins: 8; Weight: 0.000917oz; Min Operating Temperature: -55°C; Max Operating Temperature: 125°C; Package Quantity: 2500; Packaging: Tape and Reel; Number of Circuits: 1; Quiescent Current: 415uA; Bandwidth: 2MHz; Series: -; Gain Bandwidth Product: 2MHz; Voltage Gain: 60dB; Radiation Hardening: No; Lead Free: Lead Free; RoHS Compliant: Yes; ComponentLink1URL: https://datasheet.ciiva.com/4754/sbos216b-125761-4754675.pdf?src-supplier=Mouser; ComponentLink1Description: https://datasheet.ciiva.com/4754/sbos216b-125761-4754675.pdf?src-supplier=Mouser; ComponentLink2URL: https://datasheet.ciiva.com/2976/ina332-2976177.pdf?src-supplier=Avnet; ComponentLink2Description: https://datasheet.ciiva.com/2976/ina332-2976177.pdf?src-supplier=Avnet; ComponentLink3URL: https://datasheet.ciiva.com/15128/getdatasheetpartid-358519-15128786.pdf?src-supplier=Verical; ComponentLink3Description: https://datasheet.ciiva.com/15128/getdatasheetpartid-358519-15128786.pdf?src-supplier=Verical; ComponentLink4URL: https://datasheet.ciiva.com/1812/ina2332-1812806.pdf?src-supplier=Digi-Key; ComponentLink4Description: https://datasheet.ciiva.com/1812/ina2332-1812806.pdf?src-supplier=Digi-Key
footprint TSOP65P490X110-8N (TSOP, 8-Leads, Body 3.00x3.00mm, Pitch 0.65mm, IPC Medium Density)
pins: 1 RG (in), 2 VIN- (in), 3 VIN+ (in), 4 V- (power), 5 REF (in), 6 Vout (out), 7 V+ (power), 8 Shutdown (in)
text: +; _

## K12SCS1.55NOLFTX
designator S?
SWITCH PUSH SPST-NO 0.1A 30V; Mfr.: ITT C&K; Mfr. P/N: K12SCS1.55NOLFTX; Mechanical Life: 200000Cycles; Throw Configuration: SPST; Switch Function: Off-Mom; Current Rating: 100mA; Actuator Type: Round, Button; Ratings: IP40; Supplier: Arrow Electronics; Supplier Part Number: K12SC S 1.5 5N O LFTX; RoHS: Yes; Category: Pushbutton Switches; Stock: 4200; Pricing: 1=2.04, 10=1.925, 25=1.86, 50=1.806, 100=1.745, 250=1.732, 500=1.654, 900=1.595, 1800=1.521, 2700=1.503 (USD); Mounting Technology: Surface Mount; Min Operating Temperature: -40°C; Max Operating Temperature: 85°C; Packaging: Cut Tape; Voltage Rating (DC): 30V; Termination: SMD/SMT; Electrical Life: 200000Cycles; Series: K12S; RoHS Compliant: Yes; ComponentLink1URL: https://www.ckswitches.com/media/1338/k12s.pdf?src-supplier=Digi-Key; ComponentLink1Description: https://www.ckswitches.com/media/1338/k12s.pdf?src-supplier=Digi-Key
footprint TSOP240P640X110-4N (TSOP, 4-Leads, Body 5.00x4.45mm, Pitch 2.40mm, IPC Medium Density)
pins: 5, 6

## LCR-U01602DSF/AWH
designator DS?  Mfr. P/N: LCR-U01602DSF/AWH
16 x 2 Transflective White LED Backlight LCD Character Module with Heater; Mfr.: Lumex; Color: Grey; Operating Supply Voltage: 5V; Resolution (height): 2pixel; Resolution (width): 16pixel; Interface: Parallel; Character Height: 4.35mm; Number of Characters: 32; Background Color: Green; Number Of Characters Per Row: 16; Fluid Type: STN; Supplier: Digi-Key; Supplier Part Number: 67-2091-ND; RoHS: Yes; Category: Uncategorized; Stock: 1220; Pricing: 1=22.48, 10=16.96, 100=14.2462, 500=13.08322 (USD); Mounting Technology: Screw; Case/Package: Module; Pins: 18; Min Operating Temperature: -40°C; Max Operating Temperature: 85°C; Backlight Type: LED; Packaging: Bulk; Package Quantity: 1; Series: -; Reach SVHC Compliant: No; Lead Free: Lead Free; RoHS Compliant: Yes; ComponentLink1URL: https://datasheet.ciiva.com/1640/1458461-1640944.pdf?src-supplier=Farnell; ComponentLink1Description: https://datasheet.ciiva.com/1640/1458461-1640944.pdf?src-supplier=Farnell; ComponentLink2URL: https://datasheet.ciiva.com/5325/lcr-u01602dsf+a-wh-187699-5325714.pdf?src-supplier=Mouser; ComponentLink2Description: https://datasheet.ciiva.com/5325/lcr-u01602dsf+a-wh-187699-5325714.pdf?src-supplier=Mouser; ComponentLink3URL: https://datasheet.ciiva.com/16495/lcr-u01602dsf-awh-16495851.pdf?src-supplier=Future+Electronics; ComponentLink3Description: https://datasheet.ciiva.com/16495/lcr-u01602dsf-awh-16495851.pdf?src-supplier=Future+Electronics; ComponentLink4URL: https://datasheet.ciiva.com/1314/lcr-u01602dsf+a-wh-1314500.pdf?src-supplier=Newark; ComponentLink4Description: https://datasheet.ciiva.com/1314/lcr-u01602dsf+a-wh-1314500.pdf?src-supplier=Newark
footprint LCR-U01602DSF/AWH
pins: 1 VSS (power), 2 VDD (power), 3 Vo (power), 4 RS (in), 5 R/~{W} (in), 6 E (in), 7 DB0 (in), 8 DB1 (in), 9 DB2 (in), 10 DB3 (in), 11 DB4 (in), 12 DB5 (in), 13 DB6 (in), 14 DB7 (in), 15 A (in), 16 K (in), 17 HTR+, 18 HTR-

## LP38690DT-3.3
designator VR?  Mfr. P/N: LP38690DT-3.3
LDO Regulator Pos 3.3V 1A 3-Pin(2+Tab) TO-252 Rail; Mfr.: TI National Semiconductor; Dropout Voltage: 650mV; Number of Outputs: 1; Min Input Voltage: 2.7V; Max Supply Voltage: 10V; Polarity: Positive; Quiescent Current: 100uA; Accuracy: 2.5%; Output Type: Fixed; Supplier: Digi-Key; Supplier Part Number: LP38690DT-3.3-ND; RoHS: No; Category: Voltage Regulators - Linear; Pricing: 300=1.97553 (USD); Mounting Technology: Surface Mount; Case/Package: TO-252; Pins: 3; Min Operating Temperature: -40°C; Max Operating Temperature: 125°C; Packaging: Rail/Tube; Output Voltage: 3.3V; Output Current: 1A; Max Output current: 1A; Nominal Output Voltage: 3.3V; Package Quantity: 75; Number of Regulators: 1; Series: -; Reach SVHC Compliant: No; Lead Free: Contains Lead; RoHS Compliant: No; ComponentLink1URL: https://datasheet.ciiva.com/3225/lp38692-3225723.pdf?src-supplier=Avnet; ComponentLink1Description: https://datasheet.ciiva.com/3225/lp38692-3225723.pdf?src-supplier=Avnet; ComponentLink2URL: https://datasheet.ciiva.com/6583/lp38690-6583688.pdf?src-supplier=Digi-Key; ComponentLink2Description: https://datasheet.ciiva.com/6583/lp38690-6583688.pdf?src-supplier=Digi-Key
footprint DPAK229P991X238-3N (D-PAK, 3-Pads, Body 6.21x6.73mm (max), IPC Medium Density)
pins: 1 VIN (in), 2 VOUT (out), 3 GND (power)

## MAX3221ECPWR
designator U?  Mfr. P/N: MAX3221ECPWR
IC RS232 3V-5.5V DRVR 16-TSSOP; Mfr.: Texas Instruments; Data Rate: 250Kbps; Number of Drivers: 1; Min Supply Voltage: 3V; Max Supply Voltage: 5.5V; Logic Function: Transceiver,Receiver; Operating Supply Voltage: 5V; Supply Current: 1mA; Simplex/Duplex: Full Duplex; Number of I/Os: 4; Propagation Delay: 0.15us; Receiver Hysteresis: 500mV; Supplier: Mouser; Supplier Part Number: 595-MAX3221ECPWR; RoHS: Yes; Category: Interface ICs; Stock: 37066; Pricing: 1=1.25, 10=1.13, 25=1.07, 50=1.07, 100=0.878, 250=0.821, 500=0.725, 1000=0.573, 2000=0.521, 4000=0.503, 10000=0.503 (USD); Mounting Technology: Surface Mount; Case/Package: TSSOP; Pins: 16; Weight: 0.002183oz; Min Operating Temperature: -40°C; Max Operating Temperature: 85°C; Packaging: Tape and Reel; Number of Receivers: 1; Number of Transmitters: 1; Package Quantity: 2000; Number of Transceivers: 1; Series: -; Lead Free: Lead Free; RoHS Compliant: Yes; Reach SVHC Compliant: No; ComponentLink1URL: https://datasheet.ciiva.com/1702/max3221e-1702026.pdf?src-supplier=Digi-Key; ComponentLink1Description: https://datasheet.ciiva.com/1702/max3221e-1702026.pdf?src-supplier=Digi-Key; ComponentLink2URL: https://datasheet.ciiva.com/1702/max3221e-1702025.pdf?src-supplier=Digi-Key; ComponentLink2Description: https://datasheet.ciiva.com/1702/max3221e-1702025.pdf?src-supplier=Digi-Key; ComponentLink3URL: https://datasheet.ciiva.com/1702/max3221e-1702027.pdf?src-supplier=Digi-Key; ComponentLink3Description: https://datasheet.ciiva.com/1702/max3221e-1702027.pdf?src-supplier=Digi-Key; ComponentLink4URL: https://datasheet.ciiva.com/3028/slls686a-3028479.pdf?src-supplier=Avnet; ComponentLink4Description: https://datasheet.ciiva.com/3028/slls686a-3028479.pdf?src-supplier=Avnet
footprint TSOP65P640X120-16N (TSOP, 16-Leads, Body 5.00x4.40mm, Pitch 0.65mm, IPC Medium Density)
pins: 1 ~{EN} (in), 2 C1+, 3 V+ (out), 4 C1-, 5 C2+, 6 C2-, 7 V- (out), 8 RIN (in), 9 ROUT (out), 10 ~{INVALID} (out), 11 DIN (in), 12 FORCEON (in), 13 DOUT (out), 14 GND (power), 15 VCC (power), 16 ~{FORCEOFF} (in)

## MC7805ACD2TG
designator VR?  Mfr. P/N: MC7805ACD2TG
Linear Voltage Regulator, 1 A, 5 to 24 V, Positive Vout: 5.0 V; TJ = 0°C to +125°C; Mfr.: ON Semiconductor; Output Voltage: 5V; Number of Outputs: 1; Output Current: 1A; Dropout Voltage: 2V; Max Supply Voltage: 35V; Min Input Voltage: 7V; Current Rating: 3.3mA; Output Type: Fixed; Quiescent Current: 6mA; Power Supply Rejection Ratio (PSRR): 83dB; Max Output current: 2.2A; Accuracy: 4%; Supplier: Digi-Key; Supplier Part Number: MC7805ACD2TGOS-ND; RoHS: Yes; Category: Voltage Regulators - Linear; Pricing: 1=0.93, 10=0.818, 25=0.768, 100=0.5822, 250=0.49552, 500=0.47074, 1000=0.35924, 2500=0.33447, 5000=0.32208 (USD); Mounting Technology: Surface Mount; Case/Package: D2PAK; Pins: 3; Min Operating Temperature: 0°C; Max Operating Temperature: 125°C; Packaging: Rail/Tube; Package Quantity: 50; Series: -; Number of Regulators: 1; Polarity: Positive; Min Output Voltage: 5V; Input Bias Current: 3.3mA; Nominal Output Voltage: 5V; Output Voltage Accuracy: 4%; Length: 10.24mm; Width: 9.35mm; Height: 30.02mm; Radiation Hardening: No; RoHS Compliant: Yes; Lead Free: Lead Free; Halogen Free: Halogen Free; Reach SVHC Compliant: No; ComponentLink1URL: https://datasheet.ciiva.com/27050/876037-27050585.pdf?src-supplier=Jameco; ComponentLink1Description: https://datasheet.ciiva.com/27050/876037-27050585.pdf?src-supplier=Jameco; ComponentLink2URL: https://datasheet.ciiva.com/2044/mc7800-d-2044662.pdf?src-supplier=Digi-Key; ComponentLink2Description: https://datasheet.ciiva.com/2044/mc7800-d-2044662.pdf?src-supplier=Digi-Key; ComponentLink3URL: https://datasheet.ciiva.com/3224/mc7800-d-3224031.pdf?src-supplier=Avnet; ComponentLink3Description: https://datasheet.ciiva.com/3224/mc7800-d-3224031.pdf?src-supplier=Avnet; ComponentLink4URL: https://datasheet.ciiva.com/7992/1726421-7992635.pdf?src-supplier=Element14; ComponentLink4Description: https://datasheet.ciiva.com/7992/1726421-7992635.pdf?src-supplier=Element14
footprint DPAK267P1420X457-3N (D2-PAK, 3-Pads, Body 7.77x8.48mm (max), IPC Medium Density)
pins: 1 VIN (in), 2 GND (power), 3 VOUT (out)

## MC7815CD2TG
designator VR?  Mfr. P/N: MC7815CD2TG
Linear Voltage Regulator, 1 A, 5 to 24 V, Positive Vout: 15.0 V; TJ = 0°C to +125°C; Mfr.: ON Semiconductor; Number of Outputs: 1; Max Supply Voltage: 35V; Output Voltage: 15V; Dropout Voltage: 2V; Min Input Voltage: 17V; Max Output current: 2.2A; Output Current: 1A; Quiescent Current: 6.5mA; Accuracy: 4%; Power Supply Rejection Ratio (PSRR): 58dB; Output Type: Fixed; Supplier: Digi-Key; Supplier Part Number: MC7815CD2TGOS-ND; RoHS: Yes; Category: Voltage Regulators - Linear; Stock: 6966; Pricing: 1=1.05, 10=0.942, 25=0.894, 100=0.6864, 250=0.6066, 500=0.57466, 1000=0.44697, 2500=0.42462, 5000=0.40865 (USD); Mounting Technology: Surface Mount; Case/Package: D2PAK; Pins: 3; Min Operating Temperature: 0°C; Max Operating Temperature: 125°C; Packaging: Rail/Tube; Package Quantity: 50; Nominal Output Voltage: 15V; Number of Regulators: 1; Polarity: Positive; Min Output Voltage: 15V; Series: -; Output Configuration: Positive; Length: 10.24mm; Width: 9.347mm; Height: 4.572mm; Radiation Hardening: No; Reach SVHC Compliant: No; Lead Free: Lead Free; Halogen Free: Halogen Free; RoHS Compliant: Yes; ComponentLink1URL: https://datasheet.ciiva.com/15110/getdatasheetpartid-41649-15110984.pdf?src-supplier=Verical; ComponentLink1Description: https://datasheet.ciiva.com/15110/getdatasheetpartid-41649-15110984.pdf?src-supplier=Verical; ComponentLink2URL: https://datasheet.ciiva.com/22629/1878412-22629439.pdf?src-supplier=Element14; ComponentLink2Description: https://datasheet.ciiva.com/22629/1878412-22629439.pdf?src-supplier=Element14; ComponentLink3URL: https://datasheet.ciiva.com/2052/mc7800-d-2052388.pdf?src-supplier=Digi-Key; ComponentLink3Description: https://datasheet.ciiva.com/2052/mc7800-d-2052388.pdf?src-supplier=Digi-Key
footprint DPAK267P1420X457-3N (D2-PAK, 3-Pads, Body 7.77x8.48mm (max), IPC Medium Density)
pins: 1 VIN (in), 2 GND (power), 3 VOUT (out)

## MC7915ACD2TG
designator VR?  Mfr. P/N: MC7915ACD2TG
Linear Voltage Regulator, 1 A, 5 V, Negative Vout: -15 V; 2%; TJ = 0°C to +125°C; Mfr.: ON Semiconductor; Output Current: 1A; Max Supply Voltage: -35V; Min Input Voltage: -17V; Number of Outputs: 1; Dropout Voltage: 1.3V; Output Voltage: -15V; Power Rating: 15W; Quiescent Current: 8mA; Power Supply Rejection Ratio (PSRR): 60dB; Output Type: Fixed; Supplier: Arrow Electronics; RoHS: Yes; Category: Voltage Regulators - Linear; Stock: 5; Pricing: 1=0.3329, 10=0.3269, 100=0.3083, 500=0.2992, 1000=0.2759, 3000=0.2713, 10500=0.2656, 25500=0.2645 (USD); Mounting Technology: Surface Mount; Case/Package: TO-263-3; Pins: 3; Min Operating Temperature: 0°C; Max Operating Temperature: 125°C; Packaging: Rail/Tube; Package Quantity: 50; Max Output current: 1A; Number of Regulators: 1; Polarity: Negative; Nominal Output Voltage: -15V; Accuracy: 2%; Series: -; Length: 10.24mm; Width: 9.347mm; Height: 4.572mm; Reach SVHC Compliant: No; Lead Free: Lead Free; Halogen Free: Halogen Free; RoHS Compliant: Yes; ComponentLink1URL: https://datasheet.ciiva.com/4882/mc7900-d-107482-4882176.pdf?src-supplier=Mouser; ComponentLink1Description: https://datasheet.ciiva.com/4882/mc7900-d-107482-4882176.pdf?src-supplier=Mouser; ComponentLink2URL: https://datasheet.ciiva.com/8230/mc7900-d-8230047.pdf?src-supplier=Avnet; ComponentLink2Description: https://datasheet.ciiva.com/8230/mc7900-d-8230047.pdf?src-supplier=Avnet; Supplier Part Number: MC7915ACD2TG
footprint DPAK267P1420X457-3N (D2-PAK, 3-Pads, Body 7.77x8.48mm (max), IPC Medium Density)
pins: 1 VIN (in), 2 GND (power), 3 VOUT (out)